# Altium footprint library Connector_PinHeader_2.54mm.PcbLib: 278 footprints (part 9 of 18)
Each footprint in its own frame and in the unit in brackets; x right, y up, seen from the top. Pads: shape width x height; smd on the part's side, far side on the other; paste and mask are expansions set on the pad; w line width, h text height; cw(c..) or ccw(c..) is an arc to the next point about the centre after c.
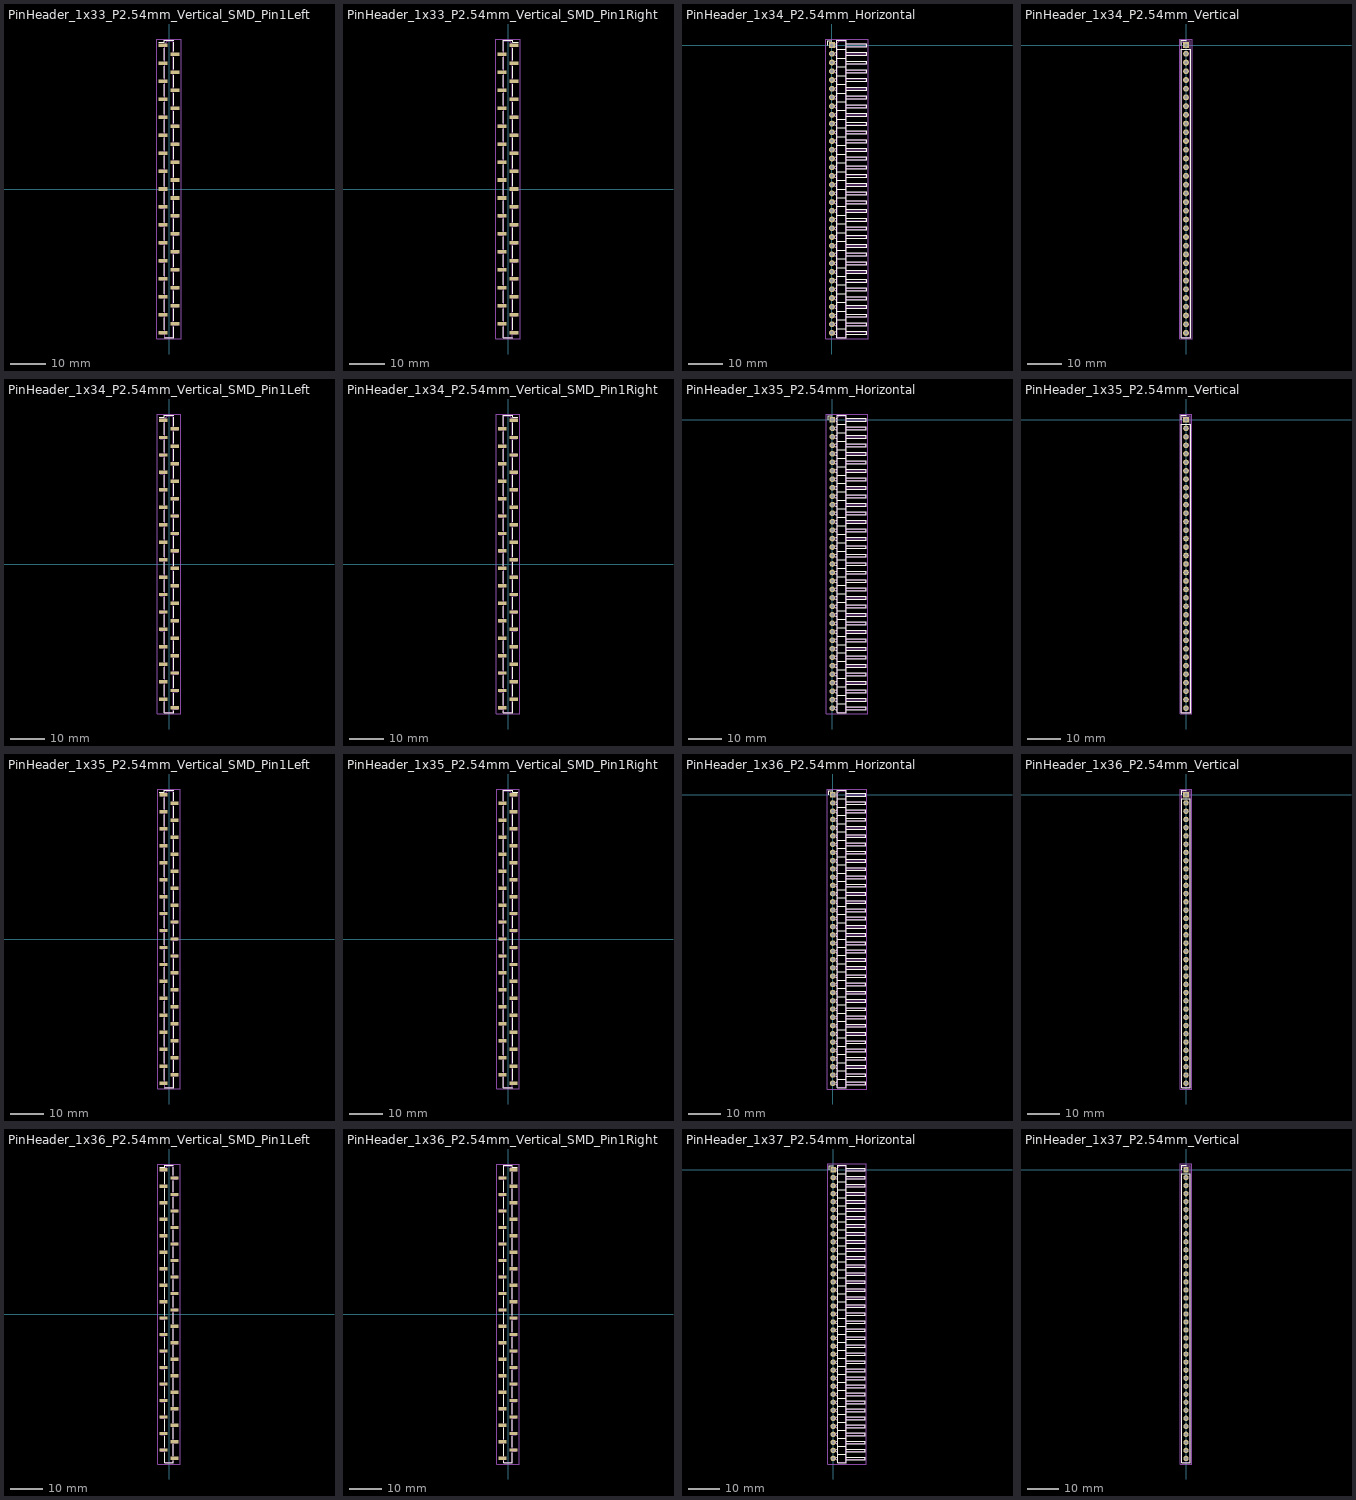
[diagram p8: the footprints below, top view; thin cyan lines are the x and y axes]

## PinHeader_1x33_P2.54mm_Vertical_SMD_Pin1Left [mm]
pads (33):
  rect 2.51x1 smd: 1(-1.655,40.64) 2(1.655,38.1) 3(-1.655,35.56) 4(1.655,33.02) 5(-1.655,30.48) 6(1.655,27.94) 7(-1.655,25.4) 8(1.655,22.86) 9(-1.655,20.32) 10(1.655,17.78) 11(-1.655,15.24) 12(1.655,12.7) 13(-1.655,10.16) 14(1.655,7.62) 15(-1.655,5.08) 16(1.655,2.54) 17(-1.655,0) 18(1.655,-2.54) 19(-1.655,-5.08) 20(1.655,-7.62) 21(-1.655,-10.16) 22(1.655,-12.7) 23(-1.655,-15.24) 24(1.655,-17.78) 25(-1.655,-20.32) 26(1.655,-22.86) 27(-1.655,-25.4) 28(1.655,-27.94) 29(-1.655,-30.48) 30(1.655,-33.02) 31(-1.655,-35.56) 32(1.655,-38.1) 33(-1.655,-40.64)
F.SilkS:
  lines w0.254: -2.85,41.45 -1.38,41.45 -1.38,42.02 1.38,42.02 ; -1.38,-42.02 1.38,-42.02 ; -1.38,-39.83 -1.38,-36.37 ; -1.38,-34.75 -1.38,-31.29 ; -1.38,-29.67 -1.38,-26.21 ; -1.38,-24.59 -1.38,-21.13 ; -1.38,-19.51 -1.38,-16.05 ; -1.38,-14.43 -1.38,-10.97 ; -1.38,-9.35 -1.38,-5.89 ; -1.38,-4.27 -1.38,-0.81 ; -1.38,0.81 -1.38,4.27 ; -1.38,5.89 -1.38,9.35 ; -1.38,10.97 -1.38,14.43 ; -1.38,16.05 -1.38,19.51 ; -1.38,21.13 -1.38,24.59 ; -1.38,26.21 -1.38,29.67 ; -1.38,31.29 -1.38,34.75 ; -1.38,36.37 -1.38,39.83 ; 1.38,-41.45 1.38,-42.02 ; 1.38,-38.91 1.38,-42.02 ; 1.38,-37.29 1.38,-33.83 ; 1.38,-32.21 1.38,-28.75 ; 1.38,-27.13 1.38,-23.67 ; 1.38,-22.05 1.38,-18.59 ; 1.38,-16.97 1.38,-13.51 ; 1.38,-11.89 1.38,-8.43 ; 1.38,-6.81 1.38,-3.35 ; 1.38,-1.73 1.38,1.73 ; 1.38,3.35 1.38,6.81 ; 1.38,8.43 1.38,11.89 ; 1.38,13.51 1.38,16.97 ; 1.38,18.59 1.38,22.05 ; 1.38,23.67 1.38,27.13 ; 1.38,28.75 1.38,32.21 ; 1.38,33.83 1.38,37.29 ; 1.38,38.91 1.38,41.45
Top Assembly:
  lines w0.254: -1.27,-40.96 -2.54,-40.96 -2.54,-40.32 -1.27,-40.32 ; -1.27,-35.88 -2.54,-35.88 -2.54,-35.24 -1.27,-35.24 ; -1.27,-30.8 -2.54,-30.8 -2.54,-30.16 -1.27,-30.16 ; -1.27,-25.72 -2.54,-25.72 -2.54,-25.08 -1.27,-25.08 ; -1.27,-20.64 -2.54,-20.64 -2.54,-20 -1.27,-20 ; -1.27,-15.56 -2.54,-15.56 -2.54,-14.92 -1.27,-14.92 ; -1.27,-10.48 -2.54,-10.48 -2.54,-9.84 -1.27,-9.84 ; -1.27,-5.4 -2.54,-5.4 -2.54,-4.76 -1.27,-4.76 ; -1.27,-0.32 -2.54,-0.32 -2.54,0.32 -1.27,0.32 ; -1.27,4.76 -2.54,4.76 -2.54,5.4 -1.27,5.4 ; -1.27,9.84 -2.54,9.84 -2.54,10.48 -1.27,10.48 ; -1.27,14.92 -2.54,14.92 -2.54,15.56 -1.27,15.56 ; -1.27,20 -2.54,20 -2.54,20.64 -1.27,20.64 ; -1.27,25.08 -2.54,25.08 -2.54,25.72 -1.27,25.72 ; -1.27,30.16 -2.54,30.16 -2.54,30.8 -1.27,30.8 ; -1.27,35.24 -2.54,35.24 -2.54,35.88 -1.27,35.88 ; -1.27,40.32 -2.54,40.32 -2.54,40.96 -1.27,40.96 ; 1.27,-38.42 2.54,-38.42 2.54,-37.78 1.27,-37.78 ; 1.27,-33.34 2.54,-33.34 2.54,-32.7 1.27,-32.7 ; 1.27,-28.26 2.54,-28.26 2.54,-27.62 1.27,-27.62 ; 1.27,-23.18 2.54,-23.18 2.54,-22.54 1.27,-22.54 ; 1.27,-18.1 2.54,-18.1 2.54,-17.46 1.27,-17.46 ; 1.27,-13.02 2.54,-13.02 2.54,-12.38 1.27,-12.38 ; 1.27,-7.94 2.54,-7.94 2.54,-7.3 1.27,-7.3 ; 1.27,-2.86 2.54,-2.86 2.54,-2.22 1.27,-2.22 ; 1.27,2.22 2.54,2.22 2.54,2.86 1.27,2.86 ; 1.27,7.3 2.54,7.3 2.54,7.94 1.27,7.94 ; 1.27,12.38 2.54,12.38 2.54,13.02 1.27,13.02 ; 1.27,17.46 2.54,17.46 2.54,18.1 1.27,18.1 ; 1.27,22.54 2.54,22.54 2.54,23.18 1.27,23.18 ; 1.27,27.62 2.54,27.62 2.54,28.26 1.27,28.26 ; 1.27,32.7 2.54,32.7 2.54,33.34 1.27,33.34 ; 1.27,37.78 2.54,37.78 2.54,38.42 1.27,38.42 ; -1.27,40.96 -1.27,-41.91 1.27,-41.91 1.27,41.91 -0.32,41.91 -1.27,40.96
  text "'.Designator'" at 0.84,-4.047 h1
Top Courtyard:
  lines w0.254: -3.41,-42.41 3.41,-42.41 3.41,42.41 -3.41,42.41 -3.41,-42.41
Top Designator:
  text ".Designator" at -7.618,-0.508 h1.52

## PinHeader_1x33_P2.54mm_Vertical_SMD_Pin1Right [mm]
pads (33):
  rect 2.51x1 smd: 1(1.655,40.64) 2(-1.655,38.1) 3(1.655,35.56) 4(-1.655,33.02) 5(1.655,30.48) 6(-1.655,27.94) 7(1.655,25.4) 8(-1.655,22.86) 9(1.655,20.32) 10(-1.655,17.78) 11(1.655,15.24) 12(-1.655,12.7) 13(1.655,10.16) 14(-1.655,7.62) 15(1.655,5.08) 16(-1.655,2.54) 17(1.655,0) 18(-1.655,-2.54) 19(1.655,-5.08) 20(-1.655,-7.62) 21(1.655,-10.16) 22(-1.655,-12.7) 23(1.655,-15.24) 24(-1.655,-17.78) 25(1.655,-20.32) 26(-1.655,-22.86) 27(1.655,-25.4) 28(-1.655,-27.94) 29(1.655,-30.48) 30(-1.655,-33.02) 31(1.655,-35.56) 32(-1.655,-38.1) 33(1.655,-40.64)
F.SilkS:
  lines w0.254: -1.38,-41.45 -1.38,-42.02 ; -1.38,-38.91 -1.38,-42.02 ; -1.38,-37.29 -1.38,-33.83 ; -1.38,-32.21 -1.38,-28.75 ; -1.38,-27.13 -1.38,-23.67 ; -1.38,-22.05 -1.38,-18.59 ; -1.38,-16.97 -1.38,-13.51 ; -1.38,-11.89 -1.38,-8.43 ; -1.38,-6.81 -1.38,-3.35 ; -1.38,-1.73 -1.38,1.73 ; -1.38,3.35 -1.38,6.81 ; -1.38,8.43 -1.38,11.89 ; -1.38,13.51 -1.38,16.97 ; -1.38,18.59 -1.38,22.05 ; -1.38,23.67 -1.38,27.13 ; -1.38,28.75 -1.38,32.21 ; -1.38,33.83 -1.38,37.29 ; -1.38,41.45 -1.38,38.91 -1.38,42.02 1.38,42.02 1.38,41.45 2.85,41.45 ; 1.38,-42.02 -1.38,-42.02 ; 1.38,-39.83 1.38,-36.37 ; 1.38,-34.75 1.38,-31.29 ; 1.38,-29.67 1.38,-26.21 ; 1.38,-24.59 1.38,-21.13 ; 1.38,-19.51 1.38,-16.05 ; 1.38,-14.43 1.38,-10.97 ; 1.38,-9.35 1.38,-5.89 ; 1.38,-4.27 1.38,-0.81 ; 1.38,0.81 1.38,4.27 ; 1.38,5.89 1.38,9.35 ; 1.38,10.97 1.38,14.43 ; 1.38,16.05 1.38,19.51 ; 1.38,21.13 1.38,24.59 ; 1.38,26.21 1.38,29.67 ; 1.38,31.29 1.38,34.75 ; 1.38,36.37 1.38,39.83
Top Assembly:
  lines w0.254: -1.27,-38.42 -2.54,-38.42 -2.54,-37.78 -1.27,-37.78 ; -1.27,-33.34 -2.54,-33.34 -2.54,-32.7 -1.27,-32.7 ; -1.27,-28.26 -2.54,-28.26 -2.54,-27.62 -1.27,-27.62 ; -1.27,-23.18 -2.54,-23.18 -2.54,-22.54 -1.27,-22.54 ; -1.27,-18.1 -2.54,-18.1 -2.54,-17.46 -1.27,-17.46 ; -1.27,-13.02 -2.54,-13.02 -2.54,-12.38 -1.27,-12.38 ; -1.27,-7.94 -2.54,-7.94 -2.54,-7.3 -1.27,-7.3 ; -1.27,-2.86 -2.54,-2.86 -2.54,-2.22 -1.27,-2.22 ; -1.27,2.22 -2.54,2.22 -2.54,2.86 -1.27,2.86 ; -1.27,7.3 -2.54,7.3 -2.54,7.94 -1.27,7.94 ; -1.27,12.38 -2.54,12.38 -2.54,13.02 -1.27,13.02 ; -1.27,17.46 -2.54,17.46 -2.54,18.1 -1.27,18.1 ; -1.27,22.54 -2.54,22.54 -2.54,23.18 -1.27,23.18 ; -1.27,27.62 -2.54,27.62 -2.54,28.26 -1.27,28.26 ; -1.27,32.7 -2.54,32.7 -2.54,33.34 -1.27,33.34 ; -1.27,37.78 -2.54,37.78 -2.54,38.42 -1.27,38.42 ; 1.27,-40.96 2.54,-40.96 2.54,-40.32 1.27,-40.32 ; 1.27,-35.88 2.54,-35.88 2.54,-35.24 1.27,-35.24 ; 1.27,-30.8 2.54,-30.8 2.54,-30.16 1.27,-30.16 ; 1.27,-25.72 2.54,-25.72 2.54,-25.08 1.27,-25.08 ; 1.27,-20.64 2.54,-20.64 2.54,-20 1.27,-20 ; 1.27,-15.56 2.54,-15.56 2.54,-14.92 1.27,-14.92 ; 1.27,-10.48 2.54,-10.48 2.54,-9.84 1.27,-9.84 ; 1.27,-5.4 2.54,-5.4 2.54,-4.76 1.27,-4.76 ; 1.27,-0.32 2.54,-0.32 2.54,0.32 1.27,0.32 ; 1.27,4.76 2.54,4.76 2.54,5.4 1.27,5.4 ; 1.27,9.84 2.54,9.84 2.54,10.48 1.27,10.48 ; 1.27,14.92 2.54,14.92 2.54,15.56 1.27,15.56 ; 1.27,20 2.54,20 2.54,20.64 1.27,20.64 ; 1.27,25.08 2.54,25.08 2.54,25.72 1.27,25.72 ; 1.27,30.16 2.54,30.16 2.54,30.8 1.27,30.8 ; 1.27,35.24 2.54,35.24 2.54,35.88 1.27,35.88 ; 1.27,40.32 2.54,40.32 2.54,40.96 1.27,40.96 ; 1.27,40.96 1.27,-41.91 -1.27,-41.91 -1.27,41.91 0.32,41.91 1.27,40.96
  text "'.Designator'" at 0.84,-4.047 h1
Top Courtyard:
  lines w0.254: -3.41,-42.41 3.41,-42.41 3.41,42.41 -3.41,42.41 -3.41,-42.41
Top Designator:
  text ".Designator" at -7.618,-0.508 h1.52

## PinHeader_1x34_P2.54mm_Horizontal [mm]
pads (34):
  rect 1.7x1.7 hole 1: 1(0,0)
  round 1.7 hole 1: 2(0,-2.54) 3(0,-5.08) 4(0,-7.62) 5(0,-10.16) 6(0,-12.7) 7(0,-15.24) 8(0,-17.78) 9(0,-20.32) 10(0,-22.86) 11(0,-25.4) 12(0,-27.94) 13(0,-30.48) 14(0,-33.02) 15(0,-35.56) 16(0,-38.1) 17(0,-40.64) 18(0,-43.18) 19(0,-45.72) 20(0,-48.26) 21(0,-50.8) 22(0,-53.34) 23(0,-55.88) 24(0,-58.42) 25(0,-60.96) 26(0,-63.5) 27(0,-66.04) 28(0,-68.58) 29(0,-71.12) 30(0,-73.66) 31(0,-76.2) 32(0,-78.74) 33(0,-81.28) 34(0,-83.82)
F.SilkS:
  drawing of 210 lines, arcs and shapes, not listed
Top Assembly:
  drawing of 209 lines, arcs and shapes, not listed
  text "'.Designator'" at 3.61,-45.957 h1
Top Courtyard:
  lines w0.254: -1.77,-85.59 10.54,-85.59 10.54,1.77 -1.77,1.77 -1.77,-85.59
Top Designator:
  text ".Designator" at -3.233,-42.418 h1.52

## PinHeader_1x34_P2.54mm_Vertical [mm]
pads (34):
  rect 1.7x1.7 hole 1: 1(0,0)
  round 1.7 hole 1: 2(0,-2.54) 3(0,-5.08) 4(0,-7.62) 5(0,-10.16) 6(0,-12.7) 7(0,-15.24) 8(0,-17.78) 9(0,-20.32) 10(0,-22.86) 11(0,-25.4) 12(0,-27.94) 13(0,-30.48) 14(0,-33.02) 15(0,-35.56) 16(0,-38.1) 17(0,-40.64) 18(0,-43.18) 19(0,-45.72) 20(0,-48.26) 21(0,-50.8) 22(0,-53.34) 23(0,-55.88) 24(0,-58.42) 25(0,-60.96) 26(0,-63.5) 27(0,-66.04) 28(0,-68.58) 29(0,-71.12) 30(0,-73.66) 31(0,-76.2) 32(0,-78.74) 33(0,-81.28) 34(0,-83.82)
F.SilkS:
  lines w0.254: -1.38,0 -1.38,1.38 0,1.38 ; -1.38,-85.2 1.38,-85.2 1.38,-1.27 -1.38,-1.27 -1.38,-85.2
Top Assembly:
  lines w0.254: -1.27,-85.09 1.27,-85.09 1.27,1.27 -0.635,1.27 -1.27,0.635 -1.27,-85.09
  text "'.Designator'" at 0.84,-45.957 h1
Top Courtyard:
  lines w0.254: -1.77,-85.59 1.77,-85.59 1.77,1.77 -1.77,1.77 -1.77,-85.59
Top Designator:
  text ".Designator" at -7.618,-42.418 h1.52

## PinHeader_1x34_P2.54mm_Vertical_SMD_Pin1Left [mm]
pads (34):
  rect 2.51x1 smd: 1(-1.655,41.91) 2(1.655,39.37) 3(-1.655,36.83) 4(1.655,34.29) 5(-1.655,31.75) 6(1.655,29.21) 7(-1.655,26.67) 8(1.655,24.13) 9(-1.655,21.59) 10(1.655,19.05) 11(-1.655,16.51) 12(1.655,13.97) 13(-1.655,11.43) 14(1.655,8.89) 15(-1.655,6.35) 16(1.655,3.81) 17(-1.655,1.27) 18(1.655,-1.27) 19(-1.655,-3.81) 20(1.655,-6.35) 21(-1.655,-8.89) 22(1.655,-11.43) 23(-1.655,-13.97) 24(1.655,-16.51) 25(-1.655,-19.05) 26(1.655,-21.59) 27(-1.655,-24.13) 28(1.655,-26.67) 29(-1.655,-29.21) 30(1.655,-31.75) 31(-1.655,-34.29) 32(1.655,-36.83) 33(-1.655,-39.37) 34(1.655,-41.91)
F.SilkS:
  lines w0.254: -2.85,42.72 -1.38,42.72 -1.38,43.29 1.38,43.29 ; -1.38,-40.18 -1.38,-43.29 1.38,-43.29 1.38,-42.72 ; -1.38,-38.56 -1.38,-35.1 ; -1.38,-33.48 -1.38,-30.02 ; -1.38,-28.4 -1.38,-24.94 ; -1.38,-23.32 -1.38,-19.86 ; -1.38,-18.24 -1.38,-14.78 ; -1.38,-13.16 -1.38,-9.7 ; -1.38,-8.08 -1.38,-4.62 ; -1.38,-3 -1.38,0.46 ; -1.38,2.08 -1.38,5.54 ; -1.38,7.16 -1.38,10.62 ; -1.38,12.24 -1.38,15.7 ; -1.38,17.32 -1.38,20.78 ; -1.38,22.4 -1.38,25.86 ; -1.38,27.48 -1.38,30.94 ; -1.38,32.56 -1.38,36.02 ; -1.38,37.64 -1.38,41.1 ; 1.38,-41.1 1.38,-37.64 ; 1.38,-36.02 1.38,-32.56 ; 1.38,-30.94 1.38,-27.48 ; 1.38,-25.86 1.38,-22.4 ; 1.38,-20.78 1.38,-17.32 ; 1.38,-15.7 1.38,-12.24 ; 1.38,-10.62 1.38,-7.16 ; 1.38,-5.54 1.38,-2.08 ; 1.38,-0.46 1.38,3 ; 1.38,4.62 1.38,8.08 ; 1.38,9.7 1.38,13.16 ; 1.38,14.78 1.38,18.24 ; 1.38,19.86 1.38,23.32 ; 1.38,24.94 1.38,28.4 ; 1.38,30.02 1.38,33.48 ; 1.38,35.1 1.38,38.56 ; 1.38,40.18 1.38,42.72
Top Assembly:
  lines w0.254: -1.27,-39.69 -2.54,-39.69 -2.54,-39.05 -1.27,-39.05 ; -1.27,-34.61 -2.54,-34.61 -2.54,-33.97 -1.27,-33.97 ; -1.27,-29.53 -2.54,-29.53 -2.54,-28.89 -1.27,-28.89 ; -1.27,-24.45 -2.54,-24.45 -2.54,-23.81 -1.27,-23.81 ; -1.27,-19.37 -2.54,-19.37 -2.54,-18.73 -1.27,-18.73 ; -1.27,-14.29 -2.54,-14.29 -2.54,-13.65 -1.27,-13.65 ; -1.27,-9.21 -2.54,-9.21 -2.54,-8.57 -1.27,-8.57 ; -1.27,-4.13 -2.54,-4.13 -2.54,-3.49 -1.27,-3.49 ; -1.27,0.95 -2.54,0.95 -2.54,1.59 -1.27,1.59 ; -1.27,6.03 -2.54,6.03 -2.54,6.67 -1.27,6.67 ; -1.27,11.11 -2.54,11.11 -2.54,11.75 -1.27,11.75 ; -1.27,16.19 -2.54,16.19 -2.54,16.83 -1.27,16.83 ; -1.27,21.27 -2.54,21.27 -2.54,21.91 -1.27,21.91 ; -1.27,26.35 -2.54,26.35 -2.54,26.99 -1.27,26.99 ; -1.27,31.43 -2.54,31.43 -2.54,32.07 -1.27,32.07 ; -1.27,36.51 -2.54,36.51 -2.54,37.15 -1.27,37.15 ; -1.27,41.59 -2.54,41.59 -2.54,42.23 -1.27,42.23 ; 1.27,-42.23 2.54,-42.23 2.54,-41.59 1.27,-41.59 ; 1.27,-37.15 2.54,-37.15 2.54,-36.51 1.27,-36.51 ; 1.27,-32.07 2.54,-32.07 2.54,-31.43 1.27,-31.43 ; 1.27,-26.99 2.54,-26.99 2.54,-26.35 1.27,-26.35 ; 1.27,-21.91 2.54,-21.91 2.54,-21.27 1.27,-21.27 ; 1.27,-16.83 2.54,-16.83 2.54,-16.19 1.27,-16.19 ; 1.27,-11.75 2.54,-11.75 2.54,-11.11 1.27,-11.11 ; 1.27,-6.67 2.54,-6.67 2.54,-6.03 1.27,-6.03 ; 1.27,-1.59 2.54,-1.59 2.54,-0.95 1.27,-0.95 ; 1.27,3.49 2.54,3.49 2.54,4.13 1.27,4.13 ; 1.27,8.57 2.54,8.57 2.54,9.21 1.27,9.21 ; 1.27,13.65 2.54,13.65 2.54,14.29 1.27,14.29 ; 1.27,18.73 2.54,18.73 2.54,19.37 1.27,19.37 ; 1.27,23.81 2.54,23.81 2.54,24.45 1.27,24.45 ; 1.27,28.89 2.54,28.89 2.54,29.53 1.27,29.53 ; 1.27,33.97 2.54,33.97 2.54,34.61 1.27,34.61 ; 1.27,39.05 2.54,39.05 2.54,39.69 1.27,39.69 ; -1.27,42.23 -1.27,-43.18 1.27,-43.18 1.27,43.18 -0.32,43.18 -1.27,42.23
  text "'.Designator'" at 0.84,-4.047 h1
Top Courtyard:
  lines w0.254: -3.41,-43.68 3.41,-43.68 3.41,43.68 -3.41,43.68 -3.41,-43.68
Top Designator:
  text ".Designator" at -7.618,-0.508 h1.52

## PinHeader_1x34_P2.54mm_Vertical_SMD_Pin1Right [mm]
pads (34):
  rect 2.51x1 smd: 1(1.655,41.91) 2(-1.655,39.37) 3(1.655,36.83) 4(-1.655,34.29) 5(1.655,31.75) 6(-1.655,29.21) 7(1.655,26.67) 8(-1.655,24.13) 9(1.655,21.59) 10(-1.655,19.05) 11(1.655,16.51) 12(-1.655,13.97) 13(1.655,11.43) 14(-1.655,8.89) 15(1.655,6.35) 16(-1.655,3.81) 17(1.655,1.27) 18(-1.655,-1.27) 19(1.655,-3.81) 20(-1.655,-6.35) 21(1.655,-8.89) 22(-1.655,-11.43) 23(1.655,-13.97) 24(-1.655,-16.51) 25(1.655,-19.05) 26(-1.655,-21.59) 27(1.655,-24.13) 28(-1.655,-26.67) 29(1.655,-29.21) 30(-1.655,-31.75) 31(1.655,-34.29) 32(-1.655,-36.83) 33(1.655,-39.37) 34(-1.655,-41.91)
F.SilkS:
  lines w0.254: -1.38,-42.72 -1.38,-43.29 1.38,-43.29 1.38,-40.18 ; -1.38,-41.1 -1.38,-37.64 ; -1.38,-36.02 -1.38,-32.56 ; -1.38,-30.94 -1.38,-27.48 ; -1.38,-25.86 -1.38,-22.4 ; -1.38,-20.78 -1.38,-17.32 ; -1.38,-15.7 -1.38,-12.24 ; -1.38,-10.62 -1.38,-7.16 ; -1.38,-5.54 -1.38,-2.08 ; -1.38,-0.46 -1.38,3 ; -1.38,4.62 -1.38,8.08 ; -1.38,9.7 -1.38,13.16 ; -1.38,14.78 -1.38,18.24 ; -1.38,19.86 -1.38,23.32 ; -1.38,24.94 -1.38,28.4 ; -1.38,30.02 -1.38,33.48 ; -1.38,35.1 -1.38,38.56 ; -1.38,42.72 -1.38,40.18 -1.38,43.29 1.38,43.29 1.38,42.72 2.85,42.72 ; 1.38,-38.56 1.38,-35.1 ; 1.38,-33.48 1.38,-30.02 ; 1.38,-28.4 1.38,-24.94 ; 1.38,-23.32 1.38,-19.86 ; 1.38,-18.24 1.38,-14.78 ; 1.38,-13.16 1.38,-9.7 ; 1.38,-8.08 1.38,-4.62 ; 1.38,-3 1.38,0.46 ; 1.38,2.08 1.38,5.54 ; 1.38,7.16 1.38,10.62 ; 1.38,12.24 1.38,15.7 ; 1.38,17.32 1.38,20.78 ; 1.38,22.4 1.38,25.86 ; 1.38,27.48 1.38,30.94 ; 1.38,32.56 1.38,36.02 ; 1.38,37.64 1.38,41.1
Top Assembly:
  lines w0.254: -1.27,-42.23 -2.54,-42.23 -2.54,-41.59 -1.27,-41.59 ; -1.27,-37.15 -2.54,-37.15 -2.54,-36.51 -1.27,-36.51 ; -1.27,-32.07 -2.54,-32.07 -2.54,-31.43 -1.27,-31.43 ; -1.27,-26.99 -2.54,-26.99 -2.54,-26.35 -1.27,-26.35 ; -1.27,-21.91 -2.54,-21.91 -2.54,-21.27 -1.27,-21.27 ; -1.27,-16.83 -2.54,-16.83 -2.54,-16.19 -1.27,-16.19 ; -1.27,-11.75 -2.54,-11.75 -2.54,-11.11 -1.27,-11.11 ; -1.27,-6.67 -2.54,-6.67 -2.54,-6.03 -1.27,-6.03 ; -1.27,-1.59 -2.54,-1.59 -2.54,-0.95 -1.27,-0.95 ; -1.27,3.49 -2.54,3.49 -2.54,4.13 -1.27,4.13 ; -1.27,8.57 -2.54,8.57 -2.54,9.21 -1.27,9.21 ; -1.27,13.65 -2.54,13.65 -2.54,14.29 -1.27,14.29 ; -1.27,18.73 -2.54,18.73 -2.54,19.37 -1.27,19.37 ; -1.27,23.81 -2.54,23.81 -2.54,24.45 -1.27,24.45 ; -1.27,28.89 -2.54,28.89 -2.54,29.53 -1.27,29.53 ; -1.27,33.97 -2.54,33.97 -2.54,34.61 -1.27,34.61 ; -1.27,39.05 -2.54,39.05 -2.54,39.69 -1.27,39.69 ; 1.27,-39.69 2.54,-39.69 2.54,-39.05 1.27,-39.05 ; 1.27,-34.61 2.54,-34.61 2.54,-33.97 1.27,-33.97 ; 1.27,-29.53 2.54,-29.53 2.54,-28.89 1.27,-28.89 ; 1.27,-24.45 2.54,-24.45 2.54,-23.81 1.27,-23.81 ; 1.27,-19.37 2.54,-19.37 2.54,-18.73 1.27,-18.73 ; 1.27,-14.29 2.54,-14.29 2.54,-13.65 1.27,-13.65 ; 1.27,-9.21 2.54,-9.21 2.54,-8.57 1.27,-8.57 ; 1.27,-4.13 2.54,-4.13 2.54,-3.49 1.27,-3.49 ; 1.27,0.95 2.54,0.95 2.54,1.59 1.27,1.59 ; 1.27,6.03 2.54,6.03 2.54,6.67 1.27,6.67 ; 1.27,11.11 2.54,11.11 2.54,11.75 1.27,11.75 ; 1.27,16.19 2.54,16.19 2.54,16.83 1.27,16.83 ; 1.27,21.27 2.54,21.27 2.54,21.91 1.27,21.91 ; 1.27,26.35 2.54,26.35 2.54,26.99 1.27,26.99 ; 1.27,31.43 2.54,31.43 2.54,32.07 1.27,32.07 ; 1.27,36.51 2.54,36.51 2.54,37.15 1.27,37.15 ; 1.27,41.59 2.54,41.59 2.54,42.23 1.27,42.23 ; 1.27,42.23 1.27,-43.18 -1.27,-43.18 -1.27,43.18 0.32,43.18 1.27,42.23
  text "'.Designator'" at 0.84,-4.047 h1
Top Courtyard:
  lines w0.254: -3.41,-43.68 3.41,-43.68 3.41,43.68 -3.41,43.68 -3.41,-43.68
Top Designator:
  text ".Designator" at -7.618,-0.508 h1.52

## PinHeader_1x35_P2.54mm_Horizontal [mm]
pads (35):
  rect 1.7x1.7 hole 1: 1(0,0)
  round 1.7 hole 1: 2(0,-2.54) 3(0,-5.08) 4(0,-7.62) 5(0,-10.16) 6(0,-12.7) 7(0,-15.24) 8(0,-17.78) 9(0,-20.32) 10(0,-22.86) 11(0,-25.4) 12(0,-27.94) 13(0,-30.48) 14(0,-33.02) 15(0,-35.56) 16(0,-38.1) 17(0,-40.64) 18(0,-43.18) 19(0,-45.72) 20(0,-48.26) 21(0,-50.8) 22(0,-53.34) 23(0,-55.88) 24(0,-58.42) 25(0,-60.96) 26(0,-63.5) 27(0,-66.04) 28(0,-68.58) 29(0,-71.12) 30(0,-73.66) 31(0,-76.2) 32(0,-78.74) 33(0,-81.28) 34(0,-83.82) 35(0,-86.36)
F.SilkS:
  drawing of 216 lines, arcs and shapes, not listed
Top Assembly:
  drawing of 215 lines, arcs and shapes, not listed
  text "'.Designator'" at 3.61,-47.227 h1
Top Courtyard:
  lines w0.254: -1.77,-88.13 10.54,-88.13 10.54,1.77 -1.77,1.77 -1.77,-88.13
Top Designator:
  text ".Designator" at -3.233,-43.688 h1.52

## PinHeader_1x35_P2.54mm_Vertical [mm]
pads (35):
  rect 1.7x1.7 hole 1: 1(0,0)
  round 1.7 hole 1: 2(0,-2.54) 3(0,-5.08) 4(0,-7.62) 5(0,-10.16) 6(0,-12.7) 7(0,-15.24) 8(0,-17.78) 9(0,-20.32) 10(0,-22.86) 11(0,-25.4) 12(0,-27.94) 13(0,-30.48) 14(0,-33.02) 15(0,-35.56) 16(0,-38.1) 17(0,-40.64) 18(0,-43.18) 19(0,-45.72) 20(0,-48.26) 21(0,-50.8) 22(0,-53.34) 23(0,-55.88) 24(0,-58.42) 25(0,-60.96) 26(0,-63.5) 27(0,-66.04) 28(0,-68.58) 29(0,-71.12) 30(0,-73.66) 31(0,-76.2) 32(0,-78.74) 33(0,-81.28) 34(0,-83.82) 35(0,-86.36)
F.SilkS:
  lines w0.254: -1.38,0 -1.38,1.38 0,1.38 ; -1.38,-87.74 1.38,-87.74 1.38,-1.27 -1.38,-1.27 -1.38,-87.74
Top Assembly:
  lines w0.254: -1.27,-87.63 1.27,-87.63 1.27,1.27 -0.635,1.27 -1.27,0.635 -1.27,-87.63
  text "'.Designator'" at 0.84,-47.227 h1
Top Courtyard:
  lines w0.254: -1.77,-88.13 1.77,-88.13 1.77,1.77 -1.77,1.77 -1.77,-88.13
Top Designator:
  text ".Designator" at -7.618,-43.688 h1.52

## PinHeader_1x35_P2.54mm_Vertical_SMD_Pin1Left [mm]
pads (35):
  rect 2.51x1 smd: 1(-1.655,43.18) 2(1.655,40.64) 3(-1.655,38.1) 4(1.655,35.56) 5(-1.655,33.02) 6(1.655,30.48) 7(-1.655,27.94) 8(1.655,25.4) 9(-1.655,22.86) 10(1.655,20.32) 11(-1.655,17.78) 12(1.655,15.24) 13(-1.655,12.7) 14(1.655,10.16) 15(-1.655,7.62) 16(1.655,5.08) 17(-1.655,2.54) 18(1.655,0) 19(-1.655,-2.54) 20(1.655,-5.08) 21(-1.655,-7.62) 22(1.655,-10.16) 23(-1.655,-12.7) 24(1.655,-15.24) 25(-1.655,-17.78) 26(1.655,-20.32) 27(-1.655,-22.86) 28(1.655,-25.4) 29(-1.655,-27.94) 30(1.655,-30.48) 31(-1.655,-33.02) 32(1.655,-35.56) 33(-1.655,-38.1) 34(1.655,-40.64) 35(-1.655,-43.18)
F.SilkS:
  lines w0.254: -2.85,43.99 -1.38,43.99 -1.38,44.56 1.38,44.56 ; -1.38,-44.56 1.38,-44.56 ; -1.38,-42.37 -1.38,-38.91 ; -1.38,-37.29 -1.38,-33.83 ; -1.38,-32.21 -1.38,-28.75 ; -1.38,-27.13 -1.38,-23.67 ; -1.38,-22.05 -1.38,-18.59 ; -1.38,-16.97 -1.38,-13.51 ; -1.38,-11.89 -1.38,-8.43 ; -1.38,-6.81 -1.38,-3.35 ; -1.38,-1.73 -1.38,1.73 ; -1.38,3.35 -1.38,6.81 ; -1.38,8.43 -1.38,11.89 ; -1.38,13.51 -1.38,16.97 ; -1.38,18.59 -1.38,22.05 ; -1.38,23.67 -1.38,27.13 ; -1.38,28.75 -1.38,32.21 ; -1.38,33.83 -1.38,37.29 ; -1.38,38.91 -1.38,42.37 ; 1.38,-43.99 1.38,-44.56 ; 1.38,-41.45 1.38,-44.56 ; 1.38,-39.83 1.38,-36.37 ; 1.38,-34.75 1.38,-31.29 ; 1.38,-29.67 1.38,-26.21 ; 1.38,-24.59 1.38,-21.13 ; 1.38,-19.51 1.38,-16.05 ; 1.38,-14.43 1.38,-10.97 ; 1.38,-9.35 1.38,-5.89 ; 1.38,-4.27 1.38,-0.81 ; 1.38,0.81 1.38,4.27 ; 1.38,5.89 1.38,9.35 ; 1.38,10.97 1.38,14.43 ; 1.38,16.05 1.38,19.51 ; 1.38,21.13 1.38,24.59 ; 1.38,26.21 1.38,29.67 ; 1.38,31.29 1.38,34.75 ; 1.38,36.37 1.38,39.83 ; 1.38,41.45 1.38,43.99
Top Assembly:
  lines w0.254: -1.27,-43.5 -2.54,-43.5 -2.54,-42.86 -1.27,-42.86 ; -1.27,-38.42 -2.54,-38.42 -2.54,-37.78 -1.27,-37.78 ; -1.27,-33.34 -2.54,-33.34 -2.54,-32.7 -1.27,-32.7 ; -1.27,-28.26 -2.54,-28.26 -2.54,-27.62 -1.27,-27.62 ; -1.27,-23.18 -2.54,-23.18 -2.54,-22.54 -1.27,-22.54 ; -1.27,-18.1 -2.54,-18.1 -2.54,-17.46 -1.27,-17.46 ; -1.27,-13.02 -2.54,-13.02 -2.54,-12.38 -1.27,-12.38 ; -1.27,-7.94 -2.54,-7.94 -2.54,-7.3 -1.27,-7.3 ; -1.27,-2.86 -2.54,-2.86 -2.54,-2.22 -1.27,-2.22 ; -1.27,2.22 -2.54,2.22 -2.54,2.86 -1.27,2.86 ; -1.27,7.3 -2.54,7.3 -2.54,7.94 -1.27,7.94 ; -1.27,12.38 -2.54,12.38 -2.54,13.02 -1.27,13.02 ; -1.27,17.46 -2.54,17.46 -2.54,18.1 -1.27,18.1 ; -1.27,22.54 -2.54,22.54 -2.54,23.18 -1.27,23.18 ; -1.27,27.62 -2.54,27.62 -2.54,28.26 -1.27,28.26 ; -1.27,32.7 -2.54,32.7 -2.54,33.34 -1.27,33.34 ; -1.27,37.78 -2.54,37.78 -2.54,38.42 -1.27,38.42 ; -1.27,42.86 -2.54,42.86 -2.54,43.5 -1.27,43.5 ; 1.27,-40.96 2.54,-40.96 2.54,-40.32 1.27,-40.32 ; 1.27,-35.88 2.54,-35.88 2.54,-35.24 1.27,-35.24 ; 1.27,-30.8 2.54,-30.8 2.54,-30.16 1.27,-30.16 ; 1.27,-25.72 2.54,-25.72 2.54,-25.08 1.27,-25.08 ; 1.27,-20.64 2.54,-20.64 2.54,-20 1.27,-20 ; 1.27,-15.56 2.54,-15.56 2.54,-14.92 1.27,-14.92 ; 1.27,-10.48 2.54,-10.48 2.54,-9.84 1.27,-9.84 ; 1.27,-5.4 2.54,-5.4 2.54,-4.76 1.27,-4.76 ; 1.27,-0.32 2.54,-0.32 2.54,0.32 1.27,0.32 ; 1.27,4.76 2.54,4.76 2.54,5.4 1.27,5.4 ; 1.27,9.84 2.54,9.84 2.54,10.48 1.27,10.48 ; 1.27,14.92 2.54,14.92 2.54,15.56 1.27,15.56 ; 1.27,20 2.54,20 2.54,20.64 1.27,20.64 ; 1.27,25.08 2.54,25.08 2.54,25.72 1.27,25.72 ; 1.27,30.16 2.54,30.16 2.54,30.8 1.27,30.8 ; 1.27,35.24 2.54,35.24 2.54,35.88 1.27,35.88 ; 1.27,40.32 2.54,40.32 2.54,40.96 1.27,40.96 ; -1.27,43.5 -1.27,-44.45 1.27,-44.45 1.27,44.45 -0.32,44.45 -1.27,43.5
  text "'.Designator'" at 0.84,-4.047 h1
Top Courtyard:
  lines w0.254: -3.41,-44.95 3.41,-44.95 3.41,44.95 -3.41,44.95 -3.41,-44.95
Top Designator:
  text ".Designator" at -7.618,-0.508 h1.52

## PinHeader_1x35_P2.54mm_Vertical_SMD_Pin1Right [mm]
pads (35):
  rect 2.51x1 smd: 1(1.655,43.18) 2(-1.655,40.64) 3(1.655,38.1) 4(-1.655,35.56) 5(1.655,33.02) 6(-1.655,30.48) 7(1.655,27.94) 8(-1.655,25.4) 9(1.655,22.86) 10(-1.655,20.32) 11(1.655,17.78) 12(-1.655,15.24) 13(1.655,12.7) 14(-1.655,10.16) 15(1.655,7.62) 16(-1.655,5.08) 17(1.655,2.54) 18(-1.655,0) 19(1.655,-2.54) 20(-1.655,-5.08) 21(1.655,-7.62) 22(-1.655,-10.16) 23(1.655,-12.7) 24(-1.655,-15.24) 25(1.655,-17.78) 26(-1.655,-20.32) 27(1.655,-22.86) 28(-1.655,-25.4) 29(1.655,-27.94) 30(-1.655,-30.48) 31(1.655,-33.02) 32(-1.655,-35.56) 33(1.655,-38.1) 34(-1.655,-40.64) 35(1.655,-43.18)
F.SilkS:
  lines w0.254: -1.38,-43.99 -1.38,-44.56 ; -1.38,-41.45 -1.38,-44.56 ; -1.38,-39.83 -1.38,-36.37 ; -1.38,-34.75 -1.38,-31.29 ; -1.38,-29.67 -1.38,-26.21 ; -1.38,-24.59 -1.38,-21.13 ; -1.38,-19.51 -1.38,-16.05 ; -1.38,-14.43 -1.38,-10.97 ; -1.38,-9.35 -1.38,-5.89 ; -1.38,-4.27 -1.38,-0.81 ; -1.38,0.81 -1.38,4.27 ; -1.38,5.89 -1.38,9.35 ; -1.38,10.97 -1.38,14.43 ; -1.38,16.05 -1.38,19.51 ; -1.38,21.13 -1.38,24.59 ; -1.38,26.21 -1.38,29.67 ; -1.38,31.29 -1.38,34.75 ; -1.38,36.37 -1.38,39.83 ; -1.38,43.99 -1.38,41.45 -1.38,44.56 1.38,44.56 1.38,43.99 2.85,43.99 ; 1.38,-44.56 -1.38,-44.56 ; 1.38,-42.37 1.38,-38.91 ; 1.38,-37.29 1.38,-33.83 ; 1.38,-32.21 1.38,-28.75 ; 1.38,-27.13 1.38,-23.67 ; 1.38,-22.05 1.38,-18.59 ; 1.38,-16.97 1.38,-13.51 ; 1.38,-11.89 1.38,-8.43 ; 1.38,-6.81 1.38,-3.35 ; 1.38,-1.73 1.38,1.73 ; 1.38,3.35 1.38,6.81 ; 1.38,8.43 1.38,11.89 ; 1.38,13.51 1.38,16.97 ; 1.38,18.59 1.38,22.05 ; 1.38,23.67 1.38,27.13 ; 1.38,28.75 1.38,32.21 ; 1.38,33.83 1.38,37.29 ; 1.38,38.91 1.38,42.37
Top Assembly:
  lines w0.254: -1.27,-40.96 -2.54,-40.96 -2.54,-40.32 -1.27,-40.32 ; -1.27,-35.88 -2.54,-35.88 -2.54,-35.24 -1.27,-35.24 ; -1.27,-30.8 -2.54,-30.8 -2.54,-30.16 -1.27,-30.16 ; -1.27,-25.72 -2.54,-25.72 -2.54,-25.08 -1.27,-25.08 ; -1.27,-20.64 -2.54,-20.64 -2.54,-20 -1.27,-20 ; -1.27,-15.56 -2.54,-15.56 -2.54,-14.92 -1.27,-14.92 ; -1.27,-10.48 -2.54,-10.48 -2.54,-9.84 -1.27,-9.84 ; -1.27,-5.4 -2.54,-5.4 -2.54,-4.76 -1.27,-4.76 ; -1.27,-0.32 -2.54,-0.32 -2.54,0.32 -1.27,0.32 ; -1.27,4.76 -2.54,4.76 -2.54,5.4 -1.27,5.4 ; -1.27,9.84 -2.54,9.84 -2.54,10.48 -1.27,10.48 ; -1.27,14.92 -2.54,14.92 -2.54,15.56 -1.27,15.56 ; -1.27,20 -2.54,20 -2.54,20.64 -1.27,20.64 ; -1.27,25.08 -2.54,25.08 -2.54,25.72 -1.27,25.72 ; -1.27,30.16 -2.54,30.16 -2.54,30.8 -1.27,30.8 ; -1.27,35.24 -2.54,35.24 -2.54,35.88 -1.27,35.88 ; -1.27,40.32 -2.54,40.32 -2.54,40.96 -1.27,40.96 ; 1.27,-43.5 2.54,-43.5 2.54,-42.86 1.27,-42.86 ; 1.27,-38.42 2.54,-38.42 2.54,-37.78 1.27,-37.78 ; 1.27,-33.34 2.54,-33.34 2.54,-32.7 1.27,-32.7 ; 1.27,-28.26 2.54,-28.26 2.54,-27.62 1.27,-27.62 ; 1.27,-23.18 2.54,-23.18 2.54,-22.54 1.27,-22.54 ; 1.27,-18.1 2.54,-18.1 2.54,-17.46 1.27,-17.46 ; 1.27,-13.02 2.54,-13.02 2.54,-12.38 1.27,-12.38 ; 1.27,-7.94 2.54,-7.94 2.54,-7.3 1.27,-7.3 ; 1.27,-2.86 2.54,-2.86 2.54,-2.22 1.27,-2.22 ; 1.27,2.22 2.54,2.22 2.54,2.86 1.27,2.86 ; 1.27,7.3 2.54,7.3 2.54,7.94 1.27,7.94 ; 1.27,12.38 2.54,12.38 2.54,13.02 1.27,13.02 ; 1.27,17.46 2.54,17.46 2.54,18.1 1.27,18.1 ; 1.27,22.54 2.54,22.54 2.54,23.18 1.27,23.18 ; 1.27,27.62 2.54,27.62 2.54,28.26 1.27,28.26 ; 1.27,32.7 2.54,32.7 2.54,33.34 1.27,33.34 ; 1.27,37.78 2.54,37.78 2.54,38.42 1.27,38.42 ; 1.27,42.86 2.54,42.86 2.54,43.5 1.27,43.5 ; 1.27,43.5 1.27,-44.45 -1.27,-44.45 -1.27,44.45 0.32,44.45 1.27,43.5
  text "'.Designator'" at 0.84,-4.047 h1
Top Courtyard:
  lines w0.254: -3.41,-44.95 3.41,-44.95 3.41,44.95 -3.41,44.95 -3.41,-44.95
Top Designator:
  text ".Designator" at -7.618,-0.508 h1.52

## PinHeader_1x36_P2.54mm_Horizontal [mm]
pads (36):
  rect 1.7x1.7 hole 1: 1(0,0)
  round 1.7 hole 1: 2(0,-2.54) 3(0,-5.08) 4(0,-7.62) 5(0,-10.16) 6(0,-12.7) 7(0,-15.24) 8(0,-17.78) 9(0,-20.32) 10(0,-22.86) 11(0,-25.4) 12(0,-27.94) 13(0,-30.48) 14(0,-33.02) 15(0,-35.56) 16(0,-38.1) 17(0,-40.64) 18(0,-43.18) 19(0,-45.72) 20(0,-48.26) 21(0,-50.8) 22(0,-53.34) 23(0,-55.88) 24(0,-58.42) 25(0,-60.96) 26(0,-63.5) 27(0,-66.04) 28(0,-68.58) 29(0,-71.12) 30(0,-73.66) 31(0,-76.2) 32(0,-78.74) 33(0,-81.28) 34(0,-83.82) 35(0,-86.36) 36(0,-88.9)
F.SilkS:
  drawing of 222 lines, arcs and shapes, not listed
Top Assembly:
  drawing of 221 lines, arcs and shapes, not listed
  text "'.Designator'" at 3.61,-48.497 h1
Top Courtyard:
  lines w0.254: -1.77,-90.67 10.54,-90.67 10.54,1.77 -1.77,1.77 -1.77,-90.67
Top Designator:
  text ".Designator" at -3.233,-44.958 h1.52

## PinHeader_1x36_P2.54mm_Vertical [mm]
pads (36):
  rect 1.7x1.7 hole 1: 1(0,0)
  round 1.7 hole 1: 2(0,-2.54) 3(0,-5.08) 4(0,-7.62) 5(0,-10.16) 6(0,-12.7) 7(0,-15.24) 8(0,-17.78) 9(0,-20.32) 10(0,-22.86) 11(0,-25.4) 12(0,-27.94) 13(0,-30.48) 14(0,-33.02) 15(0,-35.56) 16(0,-38.1) 17(0,-40.64) 18(0,-43.18) 19(0,-45.72) 20(0,-48.26) 21(0,-50.8) 22(0,-53.34) 23(0,-55.88) 24(0,-58.42) 25(0,-60.96) 26(0,-63.5) 27(0,-66.04) 28(0,-68.58) 29(0,-71.12) 30(0,-73.66) 31(0,-76.2) 32(0,-78.74) 33(0,-81.28) 34(0,-83.82) 35(0,-86.36) 36(0,-88.9)
F.SilkS:
  lines w0.254: -1.38,0 -1.38,1.38 0,1.38 ; -1.38,-90.28 1.38,-90.28 1.38,-1.27 -1.38,-1.27 -1.38,-90.28
Top Assembly:
  lines w0.254: -1.27,-90.17 1.27,-90.17 1.27,1.27 -0.635,1.27 -1.27,0.635 -1.27,-90.17
  text "'.Designator'" at 0.84,-48.497 h1
Top Courtyard:
  lines w0.254: -1.77,-90.67 1.77,-90.67 1.77,1.77 -1.77,1.77 -1.77,-90.67
Top Designator:
  text ".Designator" at -7.618,-44.958 h1.52

## PinHeader_1x36_P2.54mm_Vertical_SMD_Pin1Left [mm]
pads (36):
  rect 2.51x1 smd: 1(-1.655,44.45) 2(1.655,41.91) 3(-1.655,39.37) 4(1.655,36.83) 5(-1.655,34.29) 6(1.655,31.75) 7(-1.655,29.21) 8(1.655,26.67) 9(-1.655,24.13) 10(1.655,21.59) 11(-1.655,19.05) 12(1.655,16.51) 13(-1.655,13.97) 14(1.655,11.43) 15(-1.655,8.89) 16(1.655,6.35) 17(-1.655,3.81) 18(1.655,1.27) 19(-1.655,-1.27) 20(1.655,-3.81) 21(-1.655,-6.35) 22(1.655,-8.89) 23(-1.655,-11.43) 24(1.655,-13.97) 25(-1.655,-16.51) 26(1.655,-19.05) 27(-1.655,-21.59) 28(1.655,-24.13) 29(-1.655,-26.67) 30(1.655,-29.21) 31(-1.655,-31.75) 32(1.655,-34.29) 33(-1.655,-36.83) 34(1.655,-39.37) 35(-1.655,-41.91) 36(1.655,-44.45)
F.SilkS:
  lines w0.254: -2.85,45.26 -1.38,45.26 -1.38,45.83 1.38,45.83 ; -1.38,-42.72 -1.38,-45.83 1.38,-45.83 1.38,-45.26 ; -1.38,-41.1 -1.38,-37.64 ; -1.38,-36.02 -1.38,-32.56 ; -1.38,-30.94 -1.38,-27.48 ; -1.38,-25.86 -1.38,-22.4 ; -1.38,-20.78 -1.38,-17.32 ; -1.38,-15.7 -1.38,-12.24 ; -1.38,-10.62 -1.38,-7.16 ; -1.38,-5.54 -1.38,-2.08 ; -1.38,-0.46 -1.38,3 ; -1.38,4.62 -1.38,8.08 ; -1.38,9.7 -1.38,13.16 ; -1.38,14.78 -1.38,18.24 ; -1.38,19.86 -1.38,23.32 ; -1.38,24.94 -1.38,28.4 ; -1.38,30.02 -1.38,33.48 ; -1.38,35.1 -1.38,38.56 ; -1.38,40.18 -1.38,43.64 ; 1.38,-43.64 1.38,-40.18 ; 1.38,-38.56 1.38,-35.1 ; 1.38,-33.48 1.38,-30.02 ; 1.38,-28.4 1.38,-24.94 ; 1.38,-23.32 1.38,-19.86 ; 1.38,-18.24 1.38,-14.78 ; 1.38,-13.16 1.38,-9.7 ; 1.38,-8.08 1.38,-4.62 ; 1.38,-3 1.38,0.46 ; 1.38,2.08 1.38,5.54 ; 1.38,7.16 1.38,10.62 ; 1.38,12.24 1.38,15.7 ; 1.38,17.32 1.38,20.78 ; 1.38,22.4 1.38,25.86 ; 1.38,27.48 1.38,30.94 ; 1.38,32.56 1.38,36.02 ; 1.38,37.64 1.38,41.1 ; 1.38,42.72 1.38,45.26
Top Assembly:
  lines w0.254: -1.27,-42.23 -2.54,-42.23 -2.54,-41.59 -1.27,-41.59 ; -1.27,-37.15 -2.54,-37.15 -2.54,-36.51 -1.27,-36.51 ; -1.27,-32.07 -2.54,-32.07 -2.54,-31.43 -1.27,-31.43 ; -1.27,-26.99 -2.54,-26.99 -2.54,-26.35 -1.27,-26.35 ; -1.27,-21.91 -2.54,-21.91 -2.54,-21.27 -1.27,-21.27 ; -1.27,-16.83 -2.54,-16.83 -2.54,-16.19 -1.27,-16.19 ; -1.27,-11.75 -2.54,-11.75 -2.54,-11.11 -1.27,-11.11 ; -1.27,-6.67 -2.54,-6.67 -2.54,-6.03 -1.27,-6.03 ; -1.27,-1.59 -2.54,-1.59 -2.54,-0.95 -1.27,-0.95 ; -1.27,3.49 -2.54,3.49 -2.54,4.13 -1.27,4.13 ; -1.27,8.57 -2.54,8.57 -2.54,9.21 -1.27,9.21 ; -1.27,13.65 -2.54,13.65 -2.54,14.29 -1.27,14.29 ; -1.27,18.73 -2.54,18.73 -2.54,19.37 -1.27,19.37 ; -1.27,23.81 -2.54,23.81 -2.54,24.45 -1.27,24.45 ; -1.27,28.89 -2.54,28.89 -2.54,29.53 -1.27,29.53 ; -1.27,33.97 -2.54,33.97 -2.54,34.61 -1.27,34.61 ; -1.27,39.05 -2.54,39.05 -2.54,39.69 -1.27,39.69 ; -1.27,44.13 -2.54,44.13 -2.54,44.77 -1.27,44.77 ; 1.27,-44.77 2.54,-44.77 2.54,-44.13 1.27,-44.13 ; 1.27,-39.69 2.54,-39.69 2.54,-39.05 1.27,-39.05 ; 1.27,-34.61 2.54,-34.61 2.54,-33.97 1.27,-33.97 ; 1.27,-29.53 2.54,-29.53 2.54,-28.89 1.27,-28.89 ; 1.27,-24.45 2.54,-24.45 2.54,-23.81 1.27,-23.81 ; 1.27,-19.37 2.54,-19.37 2.54,-18.73 1.27,-18.73 ; 1.27,-14.29 2.54,-14.29 2.54,-13.65 1.27,-13.65 ; 1.27,-9.21 2.54,-9.21 2.54,-8.57 1.27,-8.57 ; 1.27,-4.13 2.54,-4.13 2.54,-3.49 1.27,-3.49 ; 1.27,0.95 2.54,0.95 2.54,1.59 1.27,1.59 ; 1.27,6.03 2.54,6.03 2.54,6.67 1.27,6.67 ; 1.27,11.11 2.54,11.11 2.54,11.75 1.27,11.75 ; 1.27,16.19 2.54,16.19 2.54,16.83 1.27,16.83 ; 1.27,21.27 2.54,21.27 2.54,21.91 1.27,21.91 ; 1.27,26.35 2.54,26.35 2.54,26.99 1.27,26.99 ; 1.27,31.43 2.54,31.43 2.54,32.07 1.27,32.07 ; 1.27,36.51 2.54,36.51 2.54,37.15 1.27,37.15 ; 1.27,41.59 2.54,41.59 2.54,42.23 1.27,42.23 ; -1.27,44.77 -1.27,-45.72 1.27,-45.72 1.27,45.72 -0.32,45.72 -1.27,44.77
  text "'.Designator'" at 0.84,-4.047 h1
Top Courtyard:
  lines w0.254: -3.41,-46.22 3.41,-46.22 3.41,46.22 -3.41,46.22 -3.41,-46.22
Top Designator:
  text ".Designator" at -7.618,-0.508 h1.52

## PinHeader_1x36_P2.54mm_Vertical_SMD_Pin1Right [mm]
pads (36):
  rect 2.51x1 smd: 1(1.655,44.45) 2(-1.655,41.91) 3(1.655,39.37) 4(-1.655,36.83) 5(1.655,34.29) 6(-1.655,31.75) 7(1.655,29.21) 8(-1.655,26.67) 9(1.655,24.13) 10(-1.655,21.59) 11(1.655,19.05) 12(-1.655,16.51) 13(1.655,13.97) 14(-1.655,11.43) 15(1.655,8.89) 16(-1.655,6.35) 17(1.655,3.81) 18(-1.655,1.27) 19(1.655,-1.27) 20(-1.655,-3.81) 21(1.655,-6.35) 22(-1.655,-8.89) 23(1.655,-11.43) 24(-1.655,-13.97) 25(1.655,-16.51) 26(-1.655,-19.05) 27(1.655,-21.59) 28(-1.655,-24.13) 29(1.655,-26.67) 30(-1.655,-29.21) 31(1.655,-31.75) 32(-1.655,-34.29) 33(1.655,-36.83) 34(-1.655,-39.37) 35(1.655,-41.91) 36(-1.655,-44.45)
F.SilkS:
  lines w0.254: -1.38,-45.26 -1.38,-45.83 1.38,-45.83 1.38,-42.72 ; -1.38,-43.64 -1.38,-40.18 ; -1.38,-38.56 -1.38,-35.1 ; -1.38,-33.48 -1.38,-30.02 ; -1.38,-28.4 -1.38,-24.94 ; -1.38,-23.32 -1.38,-19.86 ; -1.38,-18.24 -1.38,-14.78 ; -1.38,-13.16 -1.38,-9.7 ; -1.38,-8.08 -1.38,-4.62 ; -1.38,-3 -1.38,0.46 ; -1.38,2.08 -1.38,5.54 ; -1.38,7.16 -1.38,10.62 ; -1.38,12.24 -1.38,15.7 ; -1.38,17.32 -1.38,20.78 ; -1.38,22.4 -1.38,25.86 ; -1.38,27.48 -1.38,30.94 ; -1.38,32.56 -1.38,36.02 ; -1.38,37.64 -1.38,41.1 ; -1.38,45.26 -1.38,42.72 -1.38,45.83 1.38,45.83 1.38,45.26 2.85,45.26 ; 1.38,-41.1 1.38,-37.64 ; 1.38,-36.02 1.38,-32.56 ; 1.38,-30.94 1.38,-27.48 ; 1.38,-25.86 1.38,-22.4 ; 1.38,-20.78 1.38,-17.32 ; 1.38,-15.7 1.38,-12.24 ; 1.38,-10.62 1.38,-7.16 ; 1.38,-5.54 1.38,-2.08 ; 1.38,-0.46 1.38,3 ; 1.38,4.62 1.38,8.08 ; 1.38,9.7 1.38,13.16 ; 1.38,14.78 1.38,18.24 ; 1.38,19.86 1.38,23.32 ; 1.38,24.94 1.38,28.4 ; 1.38,30.02 1.38,33.48 ; 1.38,35.1 1.38,38.56 ; 1.38,40.18 1.38,43.64
Top Assembly:
  lines w0.254: -1.27,-44.77 -2.54,-44.77 -2.54,-44.13 -1.27,-44.13 ; -1.27,-39.69 -2.54,-39.69 -2.54,-39.05 -1.27,-39.05 ; -1.27,-34.61 -2.54,-34.61 -2.54,-33.97 -1.27,-33.97 ; -1.27,-29.53 -2.54,-29.53 -2.54,-28.89 -1.27,-28.89 ; -1.27,-24.45 -2.54,-24.45 -2.54,-23.81 -1.27,-23.81 ; -1.27,-19.37 -2.54,-19.37 -2.54,-18.73 -1.27,-18.73 ; -1.27,-14.29 -2.54,-14.29 -2.54,-13.65 -1.27,-13.65 ; -1.27,-9.21 -2.54,-9.21 -2.54,-8.57 -1.27,-8.57 ; -1.27,-4.13 -2.54,-4.13 -2.54,-3.49 -1.27,-3.49 ; -1.27,0.95 -2.54,0.95 -2.54,1.59 -1.27,1.59 ; -1.27,6.03 -2.54,6.03 -2.54,6.67 -1.27,6.67 ; -1.27,11.11 -2.54,11.11 -2.54,11.75 -1.27,11.75 ; -1.27,16.19 -2.54,16.19 -2.54,16.83 -1.27,16.83 ; -1.27,21.27 -2.54,21.27 -2.54,21.91 -1.27,21.91 ; -1.27,26.35 -2.54,26.35 -2.54,26.99 -1.27,26.99 ; -1.27,31.43 -2.54,31.43 -2.54,32.07 -1.27,32.07 ; -1.27,36.51 -2.54,36.51 -2.54,37.15 -1.27,37.15 ; -1.27,41.59 -2.54,41.59 -2.54,42.23 -1.27,42.23 ; 1.27,-42.23 2.54,-42.23 2.54,-41.59 1.27,-41.59 ; 1.27,-37.15 2.54,-37.15 2.54,-36.51 1.27,-36.51 ; 1.27,-32.07 2.54,-32.07 2.54,-31.43 1.27,-31.43 ; 1.27,-26.99 2.54,-26.99 2.54,-26.35 1.27,-26.35 ; 1.27,-21.91 2.54,-21.91 2.54,-21.27 1.27,-21.27 ; 1.27,-16.83 2.54,-16.83 2.54,-16.19 1.27,-16.19 ; 1.27,-11.75 2.54,-11.75 2.54,-11.11 1.27,-11.11 ; 1.27,-6.67 2.54,-6.67 2.54,-6.03 1.27,-6.03 ; 1.27,-1.59 2.54,-1.59 2.54,-0.95 1.27,-0.95 ; 1.27,3.49 2.54,3.49 2.54,4.13 1.27,4.13 ; 1.27,8.57 2.54,8.57 2.54,9.21 1.27,9.21 ; 1.27,13.65 2.54,13.65 2.54,14.29 1.27,14.29 ; 1.27,18.73 2.54,18.73 2.54,19.37 1.27,19.37 ; 1.27,23.81 2.54,23.81 2.54,24.45 1.27,24.45 ; 1.27,28.89 2.54,28.89 2.54,29.53 1.27,29.53 ; 1.27,33.97 2.54,33.97 2.54,34.61 1.27,34.61 ; 1.27,39.05 2.54,39.05 2.54,39.69 1.27,39.69 ; 1.27,44.13 2.54,44.13 2.54,44.77 1.27,44.77 ; 1.27,44.77 1.27,-45.72 -1.27,-45.72 -1.27,45.72 0.32,45.72 1.27,44.77
  text "'.Designator'" at 0.84,-4.047 h1
Top Courtyard:
  lines w0.254: -3.41,-46.22 3.41,-46.22 3.41,46.22 -3.41,46.22 -3.41,-46.22
Top Designator:
  text ".Designator" at -7.618,-0.508 h1.52

## PinHeader_1x37_P2.54mm_Horizontal [mm]
pads (37):
  rect 1.7x1.7 hole 1: 1(0,0)
  round 1.7 hole 1: 2(0,-2.54) 3(0,-5.08) 4(0,-7.62) 5(0,-10.16) 6(0,-12.7) 7(0,-15.24) 8(0,-17.78) 9(0,-20.32) 10(0,-22.86) 11(0,-25.4) 12(0,-27.94) 13(0,-30.48) 14(0,-33.02) 15(0,-35.56) 16(0,-38.1) 17(0,-40.64) 18(0,-43.18) 19(0,-45.72) 20(0,-48.26) 21(0,-50.8) 22(0,-53.34) 23(0,-55.88) 24(0,-58.42) 25(0,-60.96) 26(0,-63.5) 27(0,-66.04) 28(0,-68.58) 29(0,-71.12) 30(0,-73.66) 31(0,-76.2) 32(0,-78.74) 33(0,-81.28) 34(0,-83.82) 35(0,-86.36) 36(0,-88.9) 37(0,-91.44)
F.SilkS:
  drawing of 228 lines, arcs and shapes, not listed
Top Assembly:
  drawing of 227 lines, arcs and shapes, not listed
  text "'.Designator'" at 3.61,-49.767 h1
Top Courtyard:
  lines w0.254: -1.77,-93.21 10.54,-93.21 10.54,1.77 -1.77,1.77 -1.77,-93.21
Top Designator:
  text ".Designator" at -3.233,-46.228 h1.52

## PinHeader_1x37_P2.54mm_Vertical [mm]
pads (37):
  rect 1.7x1.7 hole 1: 1(0,0)
  round 1.7 hole 1: 2(0,-2.54) 3(0,-5.08) 4(0,-7.62) 5(0,-10.16) 6(0,-12.7) 7(0,-15.24) 8(0,-17.78) 9(0,-20.32) 10(0,-22.86) 11(0,-25.4) 12(0,-27.94) 13(0,-30.48) 14(0,-33.02) 15(0,-35.56) 16(0,-38.1) 17(0,-40.64) 18(0,-43.18) 19(0,-45.72) 20(0,-48.26) 21(0,-50.8) 22(0,-53.34) 23(0,-55.88) 24(0,-58.42) 25(0,-60.96) 26(0,-63.5) 27(0,-66.04) 28(0,-68.58) 29(0,-71.12) 30(0,-73.66) 31(0,-76.2) 32(0,-78.74) 33(0,-81.28) 34(0,-83.82) 35(0,-86.36) 36(0,-88.9) 37(0,-91.44)
F.SilkS:
  lines w0.254: -1.38,0 -1.38,1.38 0,1.38 ; -1.38,-92.82 1.38,-92.82 1.38,-1.27 -1.38,-1.27 -1.38,-92.82
Top Assembly:
  lines w0.254: -1.27,-92.71 1.27,-92.71 1.27,1.27 -0.635,1.27 -1.27,0.635 -1.27,-92.71
  text "'.Designator'" at 0.84,-49.767 h1
Top Courtyard:
  lines w0.254: -1.77,-93.21 1.77,-93.21 1.77,1.77 -1.77,1.77 -1.77,-93.21
Top Designator:
  text ".Designator" at -7.618,-46.228 h1.52